# EAGLE library part 320-938 (library switch)
TOGGLE SWITCH distributor RS Components
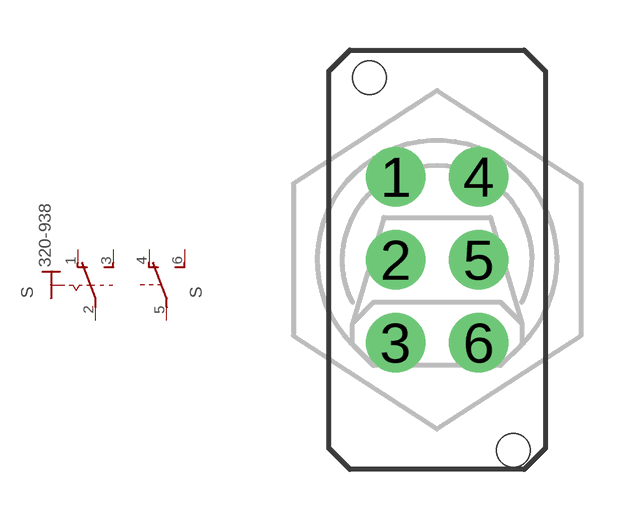
[diagram p2: symbol with the pads of 320-938; footprint 320-938]

Designator prefix S; gates B=U2 1=KS-U-

## 320-938  [320-938]
1  1:O  pas
2  1:P  pas
3  1:S  pas
4  B:O  pas
5  B:P  pas
6  B:S  pas

## Footprint 320-938 (pad centres in mm)
TOGGLE SWITCH distributor RS Components
drill 0.7 pad 1.778 round: 1 -1.245,2.489; 2 -1.245,0; 3 -1.245,-2.489; 4 1.245,2.489; 5 1.245,0; 6 1.245,-2.489
hole 1 at -2.032,5.461
hole 1 at 2.286,-5.715